# EAGLE library part MCP4728 (library Semiconductors > Integrated Circuits - ICs > Data Converter ICs > Digital to Analog Converters - DAC)
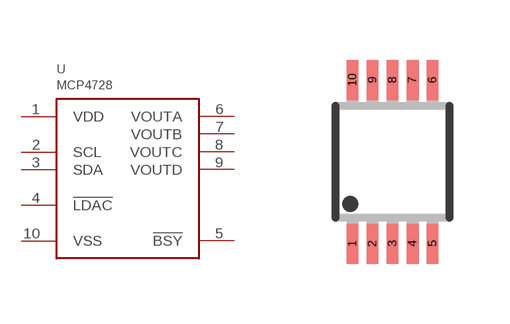
[diagram p0: symbol with the pads of MSOP10; footprint MSOP10]

Designator prefix U

## MCP4728  [MSOP10]
1  VDD
2  SCL
3  SDA
4  !LDAC
5  !BSY
6  VOUTA
7  VOUTB
8  VOUTC
9  VOUTD
10  VSS

## Footprint MSOP10 (pad centres in mm)
10 Lead Platic MSOP Source: http://www.linear.com .. LT1996
smd 0.3 x 1: 1 -1,-2.05; 2 -0.5,-2.05; 3 0,-2.05; 4 0.5,-2.05; 5 1,-2.05; 6 1,2.05; 7 0.5,2.05; 8 0,2.05; 9 -0.5,2.05; 10 -1,2.05